# Altium footprint library resistors.PcbLib: 1 footprints
Each footprint in its own frame and in the unit in brackets; x right, y up, seen from the top. Pads: shape width x height; smd on the part's side, far side on the other; paste and mask are expansions set on the pad; w line width, h text height; cw(c..) or ccw(c..) is an arc to the next point about the centre after c.
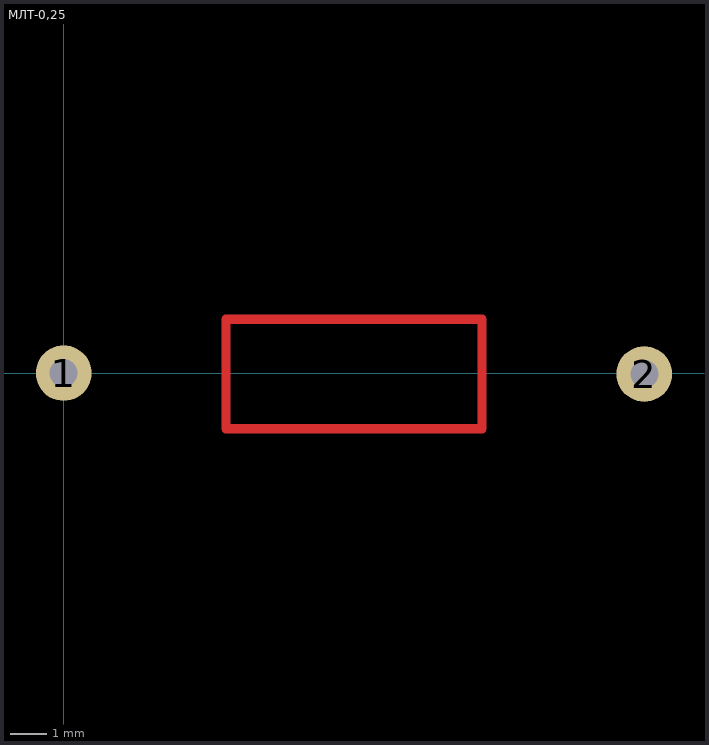
[diagram p0: the footprint, top view; thin cyan lines are the x and y axes]

## МЛТ-0,25 [mil] "R?"
height 10
pads (2):
  round 60 hole 30: 1(0,0) 2(625.59,-0.94)
Top Layer:
  lines w10: 175,-60 175,58.11 450.59,58.11 450.59,-60 175,-60